# Altium schematic symbol library displays.SchLib: 1 symbol
Pins are listed as number, name and electrical type; pins without a type are passive.

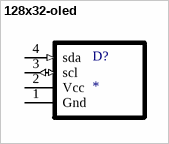
[diagram p0: symbol 128x32-oled]

## 128x32-oled
designator D?
footprint 128x32-oled
pins: 1 Gnd (power), 2 Vcc (power), 3 scl (io), 4 sda (in)